# EAGLE library part TE17-14 (library J-CylConn)
Receptacles, Printed Circuit Board Mount with .025 [0.64] sq. solder tails TE17RR-1SPPCB [AMP,213729-9] RECEPTICAL REV FLANGED PCB-MNT SERIES1 TE17-14 TE17RRF-14S [AMP,206430-1] RECEPTICAL REV FLANGED SERIES1 TE17-14 TE17RR-14S [AMP,206430-2] RECEPTICAL FREE HANGING REV SERIES1 TE17-14 TE17PR14P [AMP,206429-1] PLUG REV SERIES1 TE17-14 TE-III+P16 [TE,66099-3] PIN 16-18AWG GOLD CRIMP SERIES1 TE-III+P20 [TE,66102-8] PIN 20-24AWG GOLD CRIMP SERIES1 TE-III+S16 [TE,66101-3] SOCKET 16-18AWG GOLD CRIMP SERIES1 TE-III+S20 [TE,66105-3] SOCKET 20-24AWG GOLD CRIMP SERIES1 TE-SH17 [TE,206070-8] SHELL SZ17
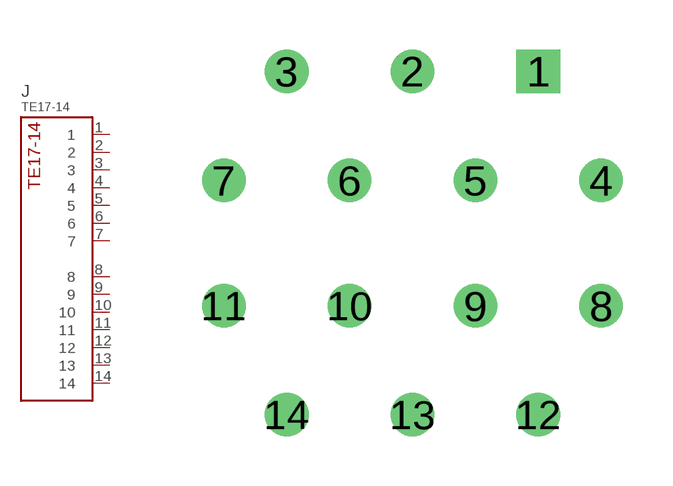
[diagram p5: symbol with the pads of TE17-14; footprint TE17-14]

Designator prefix J

## TE17-14  [TE17-14]
1  1
2  2
3  3
4  4
5  5
6  6
7  7
8  8
9  9
10  10
11  11
12  12
13  13
14  14

## Footprint TE17-14 (pad centres in mm)
Receptacles, Printed Circuit Board Mount with .025 [0.64] sq. solder tails TE17RR-14PPCB [AMP,213729-9] RECEPTICAL REV FLANGED PCB-MNT SERIES1 TE17-14 It is worth noting that the locations on datasheet are seen looking from back of connector but looking at the top of PCB the locations are fliped (as seen in a mirror).
drill 0.813 square: 1 3.81,5.207
drill 0.813: 2 0,5.207; 3 -3.81,5.207; 4 5.715,1.905; 5 1.905,1.905; 6 -1.905,1.905; 7 -5.715,1.905; 8 5.715,-1.905; 9 1.905,-1.905; 10 -1.905,-1.905; 11 -5.715,-1.905; 12 3.81,-5.207; 13 0,-5.207; 14 -3.81,-5.207